# EAGLE library part DAC1502 (library DAC1502)
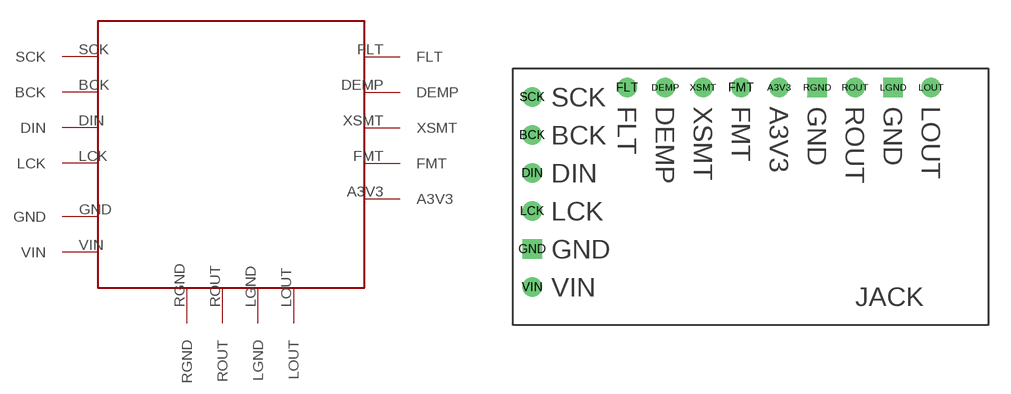
[diagram p0: symbol with the pads of PCM5102_BREACKOUT; footprint PCM5102_BREACKOUT]

Designator prefix -

## DAC1502  [PCM5102_BREACKOUT]
A3V3  A3V3
BCK  BCK
DEMP  DEMP
DIN  DIN
FLT  FLT
FMT  FMT
GND  GND
LCK  LCK
LGND  LGND
LOUT  LOUT
RGND  RGND
ROUT  ROUT
SCK  SCK
VIN  VIN
XSMT  XSMT

## Footprint PCM5102_BREACKOUT (pad centres in mm)
drill 0.813: A3V3 12.7,3.175; BCK -3.81,0; DEMP 5.08,3.175; DIN -3.81,-2.54; FLT 2.54,3.175; FMT 10.16,3.175; LCK -3.81,-5.08; LOUT 22.86,3.175; ROUT 17.78,3.175; SCK -3.81,2.54; VIN -3.81,-10.16; XSMT 7.62,3.175
drill 0.813 square: GND -3.81,-7.62; LGND 20.32,3.175; RGND 15.24,3.175